# Altium schematic symbol library ferrite_beads.SchLib: 1 symbol
Pins are listed as number, name and electrical type; pins without a type are passive.

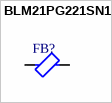
[diagram p0: symbol BLM21PG221SN1D]

## BLM21PG221SN1D
designator FB?  (value not drawn)
220 Ohms @ 100 MHz 1 Power Line Ferrite Bead 0805 (2012 Metric) 2A 45mOhm; Manufacturer Part Number: BLM21PG221SN1D; Manufacturer: Murata Electronics; Value: *; Supplier: DigiKey; Supplier Part Number: 490-1054-1-ND; Package/Case: 0805 (2012 Metric)
footprint FP-BLM21-0_2-t0_85-e0_5-MFG
pins: 1, 2